# Altium schematic symbol library sensor.SchLib: 1 symbol
Pins are listed as number, name and electrical type; pins without a type are passive.

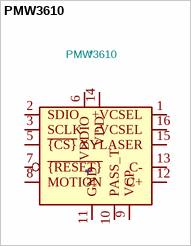
[diagram p0: symbol PMW3610]

## PMW3610
designator *  value PMW3610
ki_description: Low power mouse sensor; Footprint: sensor:PMW3610; Supplier: https://pdf1.alldatasheet.com/datasheet-pdf/view/899003/PIXART/PMW3610DM-SUDU.html
footprint PMW3610
pins: 1 +VCSEL, 2 SDIO, 3 SCLK, 5 ~{{CS}}, 6 VDDIO, 7 ~{{RESET}}, 8 MOTION, 9 VCP, 10 PASS_T, 11 GND, 12 C+, 13 C-, 14 VDD, 15 XYLASER, 16 -VCSEL